# EAGLE library part FEATHER-M0-LORA (library Adafruit_Modules)
Adafruit Feather M0 LoRa (ATSAMD21 - 48 MHz Cortex M0) RFM96 433mHz or RFM95 915mHz LoRa module
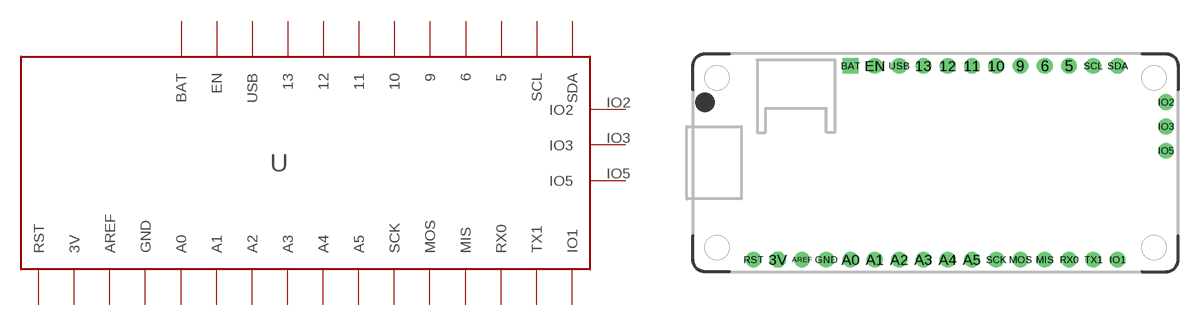
[diagram p25: symbol with the pads of FEATHER-M0-LORA; footprint FEATHER-M0-LORA]

Designator prefix -

## FEATHER-M0-LORA (ADAFRUIT: 3178, 3179)  [FEATHER-M0-LORA]
3V  3V  out
5  5
6  6
9  9
10  10
11  11
12  12
13  13
A0  A0
A1  A1
A2  A2
A3  A3
A4  A4
A5  A5
AREF  AREF  in
BAT  BAT  pwr
EN  EN  pas
GND  GND  pwr
IO1  IO1
IO2  IO2
IO3  IO3
IO5  IO5
MIS  MIS
MOS  MOS
RST  RST  pas
RX0  RX0
SCK  SCK
SCL  SCL
SDA  SDA
TX1  TX1
USB  USB  out

## Footprint FEATHER-M0-LORA (pad centres in mm)
Adafruit Feather M0 LoRa
drill 1.1 octagon: 3V -16.51,-10.16
drill 1.1: 5 13.97,10.16; 6 11.43,10.16; 9 8.89,10.16; 10 6.35,10.16; 11 3.81,10.16; 12 1.27,10.16; 13 -1.27,10.16; A0 -8.89,-10.16; A1 -6.35,-10.16; A2 -3.81,-10.16; A3 -1.27,-10.16; A4 1.27,-10.16; A5 3.81,-10.16; AREF -13.97,-10.16; EN -6.35,10.16; GND -11.43,-10.16; IO1 19.05,-10.16; IO2 24.13,6.35; IO3 24.13,3.81; IO5 24.13,1.27; MIS 11.43,-10.16; MOS 8.89,-10.16; RST -19.05,-10.16; RX0 13.97,-10.16; SCK 6.35,-10.16; SCL 16.51,10.16; SDA 19.05,10.16; TX1 16.51,-10.16; USB -3.81,10.16
drill 1.1 square: BAT -8.89,10.16